# EAGLE library part 7-5530843-7 (library TE Connectivity)
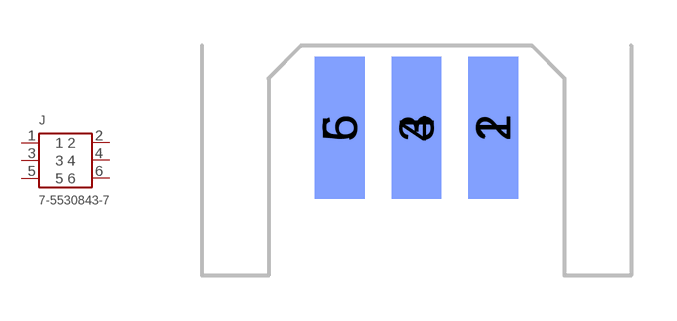
[diagram p0: symbol with the pads of 7-5530843-7; footprint 7-5530843-7]

Designator prefix J

## 7-5530843-7-PCB  [7-5530843-7]
1  1
2  2
3  3
4  4
5  5
6  6

## Footprint 7-5530843-7 (pad centres in mm)
smd 1.651 x 4.699: 1 2.54,-0.191; 3 0,-0.191; 5 -2.54,-0.191
smd 1.651 x 4.699 bottom: 2 2.54,-0.191; 4 0,-0.191; 6 -2.54,-0.191